# EAGLE library part PIC16F917 (library microchip-pic16f)
Microcontrollers with nanoWatt Technology High-Performance, Enhanced Flash, 28/40/44-Pin,
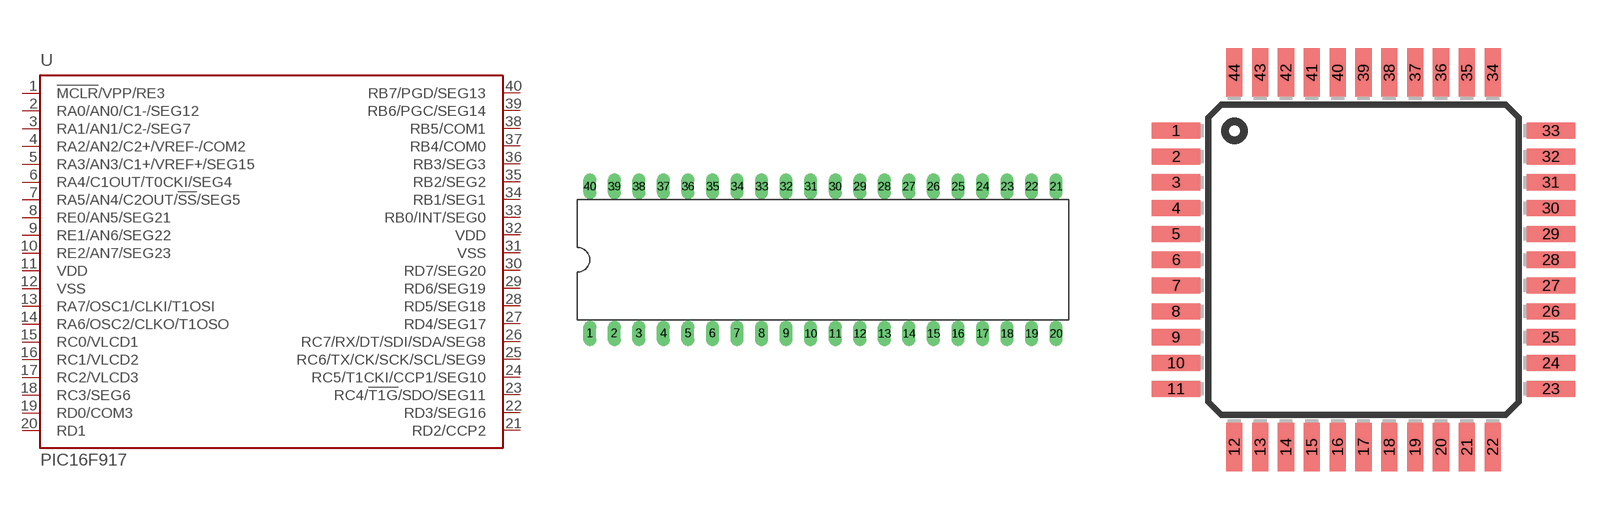
[diagram p1: symbol with the pads of DIL40; footprints DIL40, TQFP44]

Designator prefix U

## PIC16F917-I/P  [DIL40]
1  !MCLR!/VPP/RE3  in
2  RA0/AN0/C1-/SEG12
3  RA1/AN1/C2-/SEG7
4  RA2/AN2/C2+/VREF-/COM2
5  RA3/AN3/C1+/VREF+/SEG15
6  RA4/C1OUT/T0CKI/SEG4
7  RA5/AN4/C2OUT/!SS!/SEG5
8  RE0/AN5/SEG21
9  RE1/AN6/SEG22
10  RE2/AN7/SEG23
11  VDD  pwr
12  VSS  pwr
13  RA7/OSC1/CLKI/T1OSI  in
14  RA6/OSC2/CLKO/T1OSO  out
15  RC0/VLCD1
16  RC1/VLCD2
17  RC2/VLCD3
18  RC3/SEG6
19  RD0/COM3
20  RD1
21  RD2/CCP2
22  RD3/SEG16
23  RC4/!T1G!/SDO/SEG11
24  RC5/T1CKI/CCP1/SEG10
25  RC6/TX/CK/SCK/SCL/SEG9
26  RC7/RX/DT/SDI/SDA/SEG8
27  RD4/SEG17
28  RD5/SEG18
29  RD6/SEG19
30  RD7/SEG20
31  VSS  pwr
32  VDD  pwr
33  RB0/INT/SEG0
34  RB1/SEG1
35  RB2/SEG2
36  RB3/SEG3
37  RB4/COM0
38  RB5/COM1
39  RB6/PGC/SEG14
40  RB7/PGD/SEG13

## PIC16F917-I/PT  [TQFP44]
1  RC7/RX/DT/SDI/SDA/SEG8
2  RD4/SEG17
3  RD5/SEG18
4  RD6/SEG19
5  RD7/SEG20
6  VSS  pwr
7  VDD  pwr
8  RB0/INT/SEG0
9  RB1/SEG1
10  RB2/SEG2
11  RB3/SEG3
14  RB4/COM0
15  RB5/COM1
16  RB6/PGC/SEG14
17  RB7/PGD/SEG13
18  !MCLR!/VPP/RE3  in
19  RA0/AN0/C1-/SEG12
20  RA1/AN1/C2-/SEG7
21  RA2/AN2/C2+/VREF-/COM2
22  RA3/AN3/C1+/VREF+/SEG15
23  RA4/C1OUT/T0CKI/SEG4
24  RA5/AN4/C2OUT/!SS!/SEG5
25  RE0/AN5/SEG21
26  RE1/AN6/SEG22
27  RE2/AN7/SEG23
28  VDD  pwr
29  VSS  pwr
30  RA7/OSC1/CLKI/T1OSI  in
31  RA6/OSC2/CLKO/T1OSO  out
32  RC0/VLCD1
35  RC1/VLCD2
36  RC2/VLCD3
37  RC3/SEG6
38  RD0/COM3
39  RD1
40  RD2/CCP2
41  RD3/SEG16
42  RC4/!T1G!/SDO/SEG11
43  RC5/T1CKI/CCP1/SEG10
44  RC6/TX/CK/SCK/SCL/SEG9

## Footprint DIL40 (pad centres in mm)
Dual In Line package type P
drill 0.813 long: 1 -24.13,-7.62; 2 -21.59,-7.62; 3 -19.05,-7.62; 4 -16.51,-7.62; 5 -13.97,-7.62; 6 -11.43,-7.62; 7 -8.89,-7.62; 8 -6.35,-7.62; 9 -3.81,-7.62; 10 -1.27,-7.62; 11 1.27,-7.62; 12 3.81,-7.62; 13 6.35,-7.62; 14 8.89,-7.62; 15 11.43,-7.62; 16 13.97,-7.62; 17 16.51,-7.62; 18 19.05,-7.62; 19 21.59,-7.62; 20 24.13,-7.62; 21 24.13,7.62; 22 21.59,7.62; 23 19.05,7.62; 24 16.51,7.62; 25 13.97,7.62; 26 11.43,7.62; 27 8.89,7.62; 28 6.35,7.62; 29 3.81,7.62; 30 1.27,7.62; 31 -1.27,7.62; 32 -3.81,7.62; 33 -6.35,7.62; 34 -8.89,7.62; 35 -11.43,7.62; 36 -13.97,7.62; 37 -16.51,7.62; 38 -19.05,7.62; 39 -21.59,7.62; 40 -24.13,7.62

## Footprint TQFP44 (pad centres in mm)
Thin Quad Flat Pack package type TQ
smd 1.5 x 0.5: 1 -5.8,4; 2 -5.8,3.2; 3 -5.8,2.4; 4 -5.8,1.6; 5 -5.8,0.8; 6 -5.8,0; 7 -5.8,-0.8; 8 -5.8,-1.6; 9 -5.8,-2.4; 10 -5.8,-3.2; 11 -5.8,-4; 23 5.8,-4; 24 5.8,-3.2; 25 5.8,-2.4; 26 5.8,-1.6; 27 5.8,-0.8; 28 5.8,0; 29 5.8,0.8; 30 5.8,1.6; 31 5.8,2.4; 32 5.8,3.2; 33 5.8,4
smd 0.5 x 1.5: 12 -4,-5.8; 13 -3.2,-5.8; 14 -2.4,-5.8; 15 -1.6,-5.8; 16 -0.8,-5.8; 17 0,-5.8; 18 0.8,-5.8; 19 1.6,-5.8; 20 2.4,-5.8; 21 3.2,-5.8; 22 4,-5.8; 34 4,5.8; 35 3.2,5.8; 36 2.4,5.8; 37 1.6,5.8; 38 0.8,5.8; 39 0,5.8; 40 -0.8,5.8; 41 -1.6,5.8; 42 -2.4,5.8; 43 -3.2,5.8; 44 -4,5.8